# Altium footprint library PcbLib1.PcbLib: 35 footprints (part 1 of 3)
Each footprint in its own frame and in the unit in brackets; x right, y up, seen from the top. Pads: shape width x height; smd on the part's side, far side on the other; paste and mask are expansions set on the pad; w line width, h text height; cw(c..) or ccw(c..) is an arc to the next point about the centre after c.
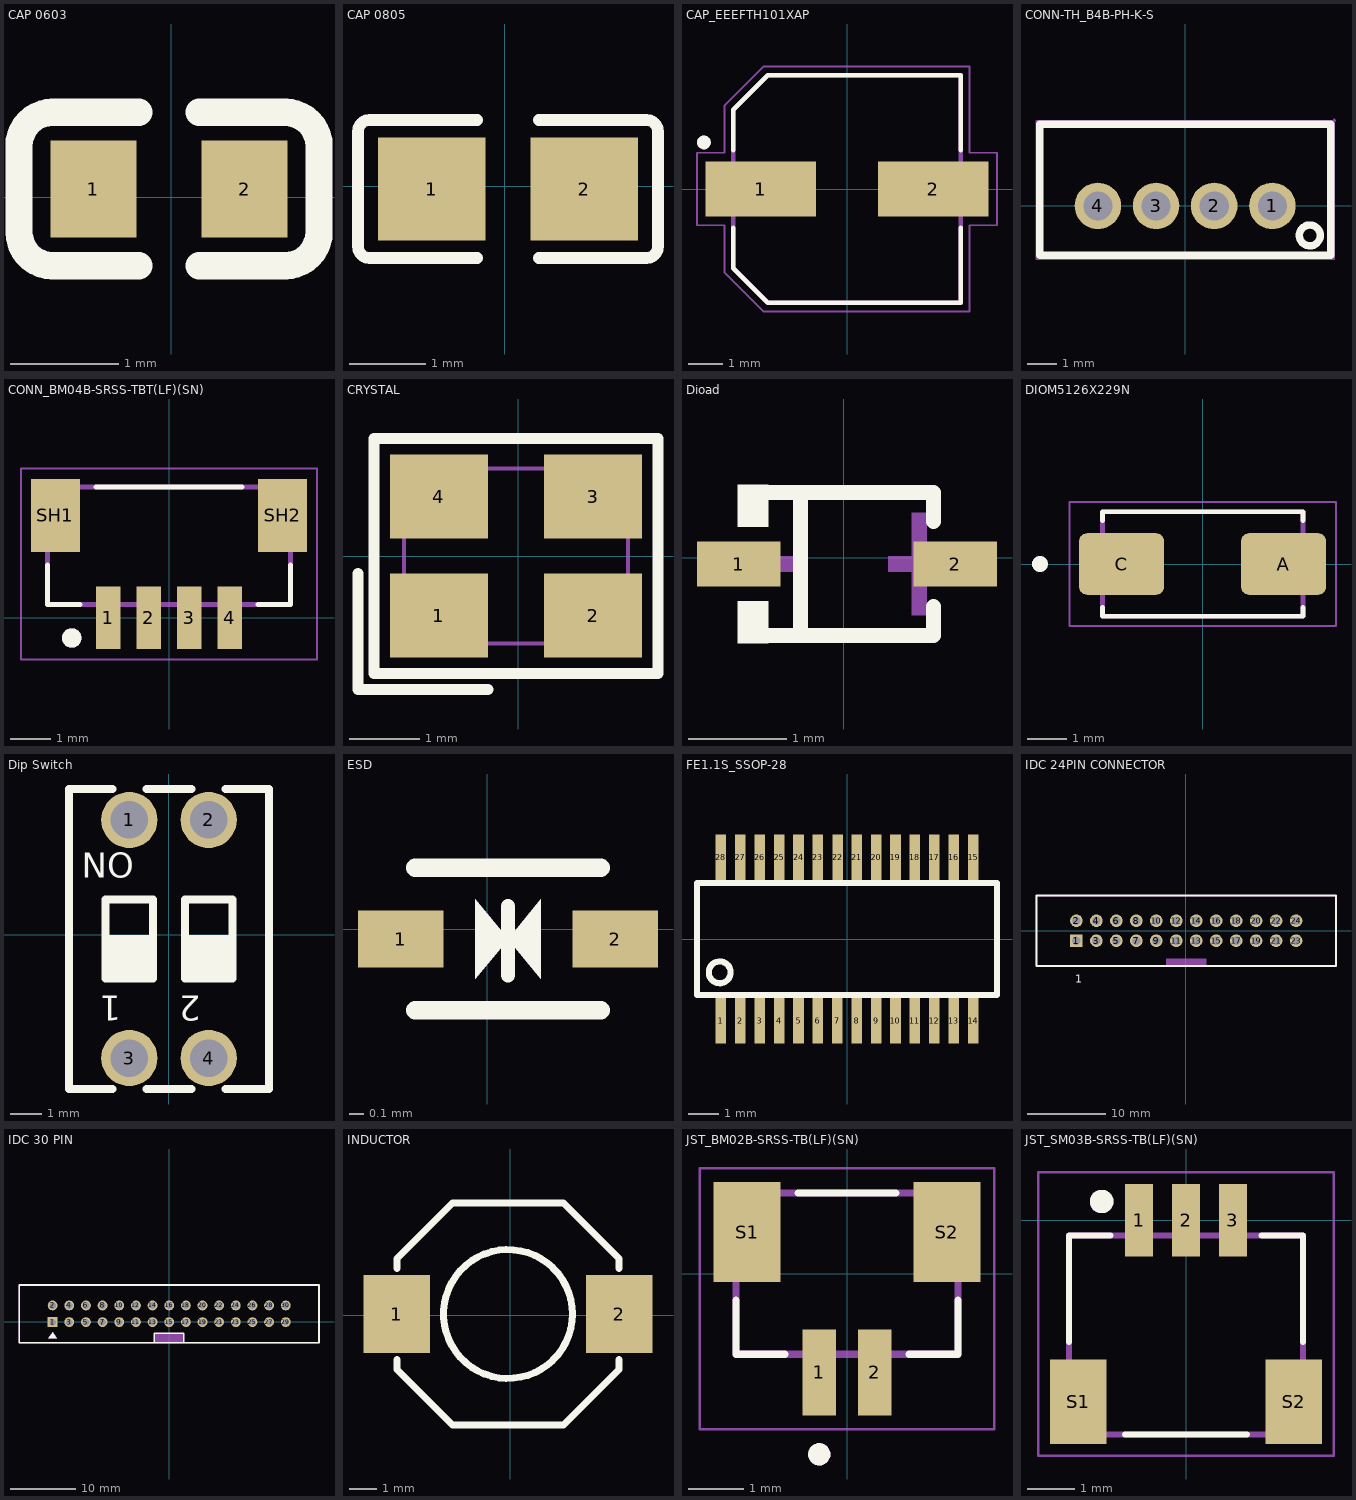
[diagram p0: the footprints below, top view; thin cyan lines are the x and y axes]

## CAP 0603 [mm]
pads (2):
  rect 0.8x0.9 smd paste+0 mask+0.051: 1(-0.722,0.075) 2(0.678,0.075)
Top Overlay:
  lines w0.254: -0.302,-0.635 -1.102,-0.635 cw(c-1.102,-0.325) -1.412,-0.325 -1.412,0.475 cw(c-1.102,0.475) -1.102,0.785 -0.302,0.785 ; 0.258,-0.635 1.058,-0.635 ccw(c1.058,-0.325) 1.368,-0.325 1.368,0.475 ccw(c1.058,0.475) 1.058,0.785 0.258,0.785
3D body "GCM188R71E472KA37D.STEP": height 0.78, standoff -0.02, extent -0.8,-0.319 0.8,0.481

## CAP 0805 [mm]
pads (2):
  rect 1.41x1.35 smd paste-100 mask+0.051: 1(-0.956,-0.036) 2(1.044,-0.036)
Top Overlay:
  lines w0.152: -0.358,-0.94 -1.768,-0.94 cw(c-1.768,-0.787) -1.92,-0.787 -1.92,0.715 cw(c-1.768,0.715) -1.768,0.867 -0.358,0.867 ; 0.445,-0.94 1.855,-0.94 ccw(c1.855,-0.787) 2.007,-0.787 2.007,0.715 ccw(c1.855,0.715) 1.855,0.867 0.445,0.867
Top Paste:
  region: -1.661,-0.676 -1.661,0.604 -1.611,0.654 -0.461,0.654 -0.411,0.604 -0.406,0.194 -0.856,0.194 -0.856,-0.256 -0.416,-0.256 -0.411,-0.676 -0.461,-0.726 -1.611,-0.726
  region: 1.749,0.604 1.749,-0.676 1.699,-0.726 0.549,-0.726 0.499,-0.676 0.494,-0.266 0.944,-0.266 0.944,0.184 0.504,0.184 0.499,0.604 0.549,0.654 1.699,0.654
3D body "GCM2165C2A151JA16D.STEP": height 1.26, standoff 0.01, extent -1,-0.763 1,0.687

## CAP_EEEFTH101XAP [mm]
height 7.7
pads (2):
  rect 3.2x1.6 smd: 1(-2.5,0) 2(2.5,0)
Top Overlay:
  circle w0.2: c-4.15,1.35 r0.1
  lines w0.127: -3.3,-1.12 -3.3,-2.3 -2.3,-3.3 3.3,-3.3 3.3,-1.12 ; -3.3,1.12 -3.3,2.3 -2.3,3.3 3.3,3.3 3.3,1.12
Mechanical 13:
  circle w0.2: c-4.15,1.35 r0.1
  lines w0.127: -3.3,-2.3 -2.3,-3.3 3.3,-3.3 3.3,3.3 -2.3,3.3 -3.3,2.3 -3.3,-2.3
Mechanical 15:
  lines w0.05: -4.35,-1.05 -4.35,1.05 -3.55,1.05 -3.55,2.425 -2.425,3.55 3.55,3.55 3.55,1.05 4.35,1.05 4.35,-1.05 3.55,-1.05 3.55,-3.55 -2.425,-3.55 -3.55,-2.425 -3.55,-1.05 -4.35,-1.05
3D body "step_temp.STEP": height 7.7, standoff 0, extent -3.65,-3.3 3.65,3.3

## CONN-TH_B4B-PH-K-S [mm]
pads (4):
  round 1.6 hole 1: 1(3,0) 2(1,0) 3(-1,0) 4(-3,0)
Top Overlay:
  circle w0.254: c4.286,-1.016 r0.359
  lines w0.254: -5,-1.7 5,-1.7 5,2.8 -5,2.8 -5,-1.7
Mechanical 15:
  region: 1.4,0 1.4,-0.08 1.339,-0.227 1.227,-0.339 1.08,-0.4 0.92,-0.4 0.773,-0.339 0.661,-0.227 0.6,-0.08 0.6,0 0.6,0.08 0.661,0.227 0.773,0.339 0.92,0.4 1.08,0.4 1.227,0.339 1.339,0.227 1.4,0.08 1.4,0
  region: 3.4,0 3.4,-0.08 3.339,-0.227 3.227,-0.339 3.08,-0.4 2.92,-0.4 2.773,-0.339 2.661,-0.227 2.6,-0.08 2.6,0 2.6,0.08 2.661,0.227 2.773,0.339 2.92,0.4 3.08,0.4 3.227,0.339 3.339,0.227 3.4,0.08 3.4,0
  region: -0.6,0 -0.6,-0.08 -0.661,-0.227 -0.773,-0.339 -0.92,-0.4 -1.08,-0.4 -1.227,-0.339 -1.339,-0.227 -1.4,-0.08 -1.4,0 -1.4,0.08 -1.339,0.227 -1.227,0.339 -1.08,0.4 -0.92,0.4 -0.773,0.339 -0.661,0.227 -0.6,0.08 -0.6,0
  region: -2.6,0 -2.6,-0.08 -2.661,-0.227 -2.773,-0.339 -2.92,-0.4 -3.08,-0.4 -3.227,-0.339 -3.339,-0.227 -3.4,-0.08 -3.4,0 -3.4,0.08 -3.339,0.227 -3.227,0.339 -3.08,0.4 -2.92,0.4 -2.773,0.339 -2.661,0.227 -2.6,0.08 -2.6,0
  region: 5.187,2.927 5.187,2.902 5.152,2.867 5.102,2.867 5.067,2.902 5.067,2.927 5.067,2.952 5.102,2.987 5.152,2.987 5.187,2.952 5.187,2.927
  lines w0.051: -5.127,-1.827 5.127,-1.827 5.127,2.927 -5.127,2.927 -5.127,-1.827
3D body "3D_PCB17_2026-05-06.SLDASM1.STEP": height 6.1, standoff -2.9, extent -4.904,-1.739 4.997,2.961

## CONN_BM04B-SRSS-TBT(LF)(SN) [mm]
pads (6):
  rect 0.6x1.55 smd: 1(-1.5,0) 2(-0.5,0) 3(0.5,0) 4(1.5,0)
  rect 1.2x1.8 smd: SH1(-2.8,2.525) SH2(2.8,2.525)
Top Overlay:
  circle w0.24: c-2.4,-0.5 r0.12
  lines w0.127: -3,1.3 -3,0.325 -2.2,0.325 ; -1.8,3.225 1.8,3.225 ; 2.2,0.325 3,0.325 3,1.3
Mechanical 13:
  circle w0.24: c-2.4,-0.5 r0.12
  lines w0.127: -3,0.325 3,0.325 3,3.225 -3,3.225 -3,0.325
Mechanical 15:
  lines w0.05: -3.65,-1.025 3.65,-1.025 3.65,3.675 -3.65,3.675 -3.65,-1.025
3D body "BM04B-SRSS-TBT(LF)(SN)--3DModel-STEP-56544 (1).STEP": height 4.35, standoff 0, extent -3,-0.552 3,3.048

## CRYSTAL [mm]
pads (4):
  rect 1.4x1.2 smd: 1(-1.129,-0.848) 2(1.071,-0.848) 3(1.071,0.852) 4(-1.129,0.852)
Top Overlay:
  lines w0.152: -2.286,-0.248 -2.286,-1.905 -0.429,-1.905 ; -2.057,-1.676 -2.057,1.681 2,1.681 2,-1.676 -2.057,-1.676
Mechanical 6:
  circle w0.254: c-1.299,-0.887 r0.127
Mechanical 15:
  region: -1.569,-1.248 -1.569,-1.273 -1.604,-1.308 -1.654,-1.308 -1.689,-1.273 -1.689,-1.248 -1.689,-1.223 -1.654,-1.188 -1.604,-1.188 -1.569,-1.223
  region: -1.529,1.152 -0.629,1.152 -0.629,0.352 -1.529,0.352
  region: 0.571,1.152 1.471,1.152 1.471,0.352 0.571,0.352
  region: 0.571,-0.348 1.471,-0.348 1.471,-1.148 0.571,-1.148
  region: -1.529,-0.348 -0.629,-0.348 -0.629,-1.148 -1.529,-1.148
  lines w0.051: -1.629,-1.248 -1.629,1.252 1.571,1.252 1.571,-1.248 -1.629,-1.248
3D body "3D_PCB2_2026-04-22.STEPN.STEP": height 0.73, standoff 0.03, extent -1.654,-1.274 1.546,1.226

## Dioad [mm]
pads (2):
  rect 0.845x0.455 smd paste+0 mask+0.051: 1(-1.066,-0.061) 2(1.129,-0.061)
Top Overlay:
  region: -0.768,-0.864 -0.768,-0.441 -1.073,-0.441 -1.073,-0.864
  region: -0.768,0.741 -0.768,0.319 -1.073,0.319 -1.073,0.741
  lines w0.152: -0.844,-0.787 0.908,-0.787 0.908,-0.492 ; -0.844,0.665 0.908,0.665 0.908,0.37 ; -0.44,-0.787 -0.44,0.665
Mechanical 15:
  region: 0.842,0.459 0.842,-0.581 0.686,-0.581 0.686,0.459
  region: 1.076,0.017 1.076,-0.139 0.452,-0.139 0.452,0.017
  region: -1.012,0.017 -1.012,-0.139 -0.388,-0.139 -0.388,0.017

## DIOM5126X229N [mm]
height 2.29
pads (2):
  rrect25% 2.17x1.57 smd: A(2.065,0) C(-2.065,0)
Top Overlay:
  circle w0.2: c-4.15,0 r0.1
  lines w0.127: -2.552,-1.105 -2.552,-1.332 2.552,-1.332 2.552,-1.105 ; -2.552,1.105 -2.552,1.332 2.552,1.332 2.552,1.105
Mechanical 13:
  circle w0.2: c-4.15,0 r0.1
  lines w0.127: -2.552,-1.332 -2.552,1.332 2.552,1.332 2.552,-1.332 -2.552,-1.332
Mechanical 15:
  lines w0.05: -3.4,-1.582 3.4,-1.582 3.4,1.582 -3.4,1.582 -3.4,-1.582
3D body "step_temp.STEP": height 2.29, standoff 0, extent -2.553,-1.333 2.553,1.333

## Dip Switch [mm]
pads (4):
  round 1.8 hole 1.2 paste-2539.97 mask+0.051: 1(-1.26,3.68) 2(1.28,3.68) 3(-1.26,-3.94) 4(1.28,-3.94)
Top Overlay:
  lines w0.254: -2.022,-1.146 -0.498,-1.146 ; -2.022,-0.892 -0.498,-0.892 ; -2.022,-0.638 -0.498,-0.638 ; -2.022,-0.384 -0.498,-0.384 ; -2.022,-0.13 -0.498,-0.13 ; -1.804,-4.93 -3.19,-4.93 -3.19,4.67 -1.804,4.67 ; -0.716,-4.93 0.736,-4.93 ; -0.716,4.67 0.736,4.67 ; 0.518,-1.146 2.042,-1.146 ; 0.518,-0.892 2.042,-0.892 ; 0.518,-0.638 2.042,-0.638 ; 0.518,-0.384 2.042,-0.384 ; 0.518,-0.13 2.042,-0.13 ; 1.824,-4.93 3.21,-4.93 3.21,4.67 1.824,4.67 ; -2.022,-1.4 -2.022,1.14 -0.498,1.14 -0.498,-1.4 -2.022,-1.4 ; 0.518,-1.4 0.518,1.14 2.042,1.14 2.042,-1.4 0.518,-1.4
  text "2" at 1.026,-1.945 h0.8
  text "1" at -1.514,-1.945 h0.8
  text "NO" at -2.784,1.827 h0.8
3D body "3D_PCB6_2026-04-28.STEPN.STEP": height 6.7, standoff -3.1, extent -3.288,-5.102 3.353,4.798

## ESD [mm]
pads (2):
  rect 0.6x0.4 smd paste+0 mask+0.051: 1(-0.604,-0.07) 2(0.896,-0.07)
Top Overlay:
  region: 0.146,-0.07 -0.083,-0.349 -0.083,0.209
  region: 0.146,-0.07 0.375,0.209 0.375,-0.349
  lines w0.1: 0.146,-0.324 0.146,0.159
  lines w0.13: -0.504,-0.57 0.796,-0.57 ; -0.504,0.43 0.796,0.43
Mechanical 15:
  region: 0.375,0.209 0.375,-0.349 0.146,-0.07
  region: -0.083,0.209 -0.083,-0.349 0.146,-0.07

## FE1.1S_SSOP-28 [mm]
pads (28):
  rect 0.35x1.5 smd: 1(-4.16,-2.7) 2(-3.52,-2.7) 3(-2.88,-2.7) 4(-2.24,-2.7) 5(-1.6,-2.7) 6(-0.96,-2.7) 7(-0.32,-2.7) 8(0.32,-2.7) 9(0.96,-2.7) 10(1.6,-2.7) 11(2.24,-2.7) 12(2.88,-2.7) 13(3.52,-2.7) 14(4.16,-2.7) 15(4.16,2.7) 16(3.52,2.7) 17(2.88,2.7) 18(2.24,2.7) 19(1.6,2.7) 20(0.96,2.7) 21(0.32,2.7) 22(-0.3,2.7) 23(-0.96,2.7) 24(-1.6,2.7) 25(-2.24,2.7) 26(-2.88,2.7) 27(-3.52,2.7) 28(-4.16,2.7)
Top Overlay:
  circle w0.203: c-4.2,-1.1 r0.361
  lines w0.203: -4.95,1.85 -4.95,-1.85 4.95,-1.85 4.95,1.85 -4.93,1.85
3D body "step_temp.STEP": height 1.73, standoff 0, extent -4.953,-2.997 4.953,2.997

## IDC 24PIN CONNECTOR [mm]
pads (24):
  rect 1.6x1.6 hole 1.05: 1(-13.895,-1.295)
  round 1.6 hole 1.05: 2(-13.895,1.245) 3(-11.355,-1.295) 4(-11.355,1.245) 5(-8.815,-1.295) 6(-8.815,1.245) 7(-6.275,-1.295) 8(-6.275,1.245) 9(-3.735,-1.295) 10(-3.735,1.245) 11(-1.195,-1.295) 12(-1.195,1.245) 13(1.345,-1.295) 14(1.345,1.245) 15(3.885,-1.295) 16(3.885,1.245) 17(6.425,-1.295) 18(6.425,1.245) 19(8.965,-1.295) 20(8.965,1.245) 21(11.505,-1.295) 22(11.505,1.245) 23(14.045,-1.295) 24(14.045,1.245)
Top Overlay:
  lines w0.254: -18.965,-4.526 19.115,-4.526 19.115,4.474 -18.965,4.474 -18.965,-4.526
  text "1" at -14.022,-6.629 h1
Mechanical 6:
  region: -2.465,-4.47 -2.465,-3.581 2.615,-3.581 2.615,-4.47
Mechanical 15:
  region: -18.905,-4.475 -18.905,-4.5 -18.94,-4.535 -18.989,-4.535 -19.025,-4.5 -19.025,-4.475 -19.025,-4.451 -18.989,-4.416 -18.94,-4.416 -18.905,-4.451
  region: -14.215,-0.975 -13.575,-0.975 -13.575,-1.615 -14.215,-1.615
  region: -14.215,1.565 -13.575,1.565 -13.575,0.925 -14.215,0.925
  region: -11.675,-0.975 -11.035,-0.975 -11.035,-1.615 -11.675,-1.615
  region: -11.675,1.565 -11.035,1.565 -11.035,0.925 -11.675,0.925
  region: -9.135,-0.975 -8.495,-0.975 -8.495,-1.615 -9.135,-1.615
  region: -9.135,1.565 -8.495,1.565 -8.495,0.925 -9.135,0.925
  region: -6.595,-0.975 -5.955,-0.975 -5.955,-1.615 -6.595,-1.615
  region: -6.595,1.565 -5.955,1.565 -5.955,0.925 -6.595,0.925
  region: -4.055,-0.975 -3.415,-0.975 -3.415,-1.615 -4.055,-1.615
  region: -4.055,1.565 -3.415,1.565 -3.415,0.925 -4.055,0.925
  region: -1.515,-0.975 -0.875,-0.975 -0.875,-1.615 -1.515,-1.615
  region: -1.515,1.565 -0.875,1.565 -0.875,0.925 -1.515,0.925
  region: 1.025,-0.975 1.665,-0.975 1.665,-1.615 1.025,-1.615
  region: 1.025,1.565 1.665,1.565 1.665,0.925 1.025,0.925
  region: 3.565,-0.975 4.205,-0.975 4.205,-1.615 3.565,-1.615
  region: 3.565,1.565 4.205,1.565 4.205,0.925 3.565,0.925
  region: 6.105,-0.975 6.745,-0.975 6.745,-1.615 6.105,-1.615
  region: 6.105,1.565 6.745,1.565 6.745,0.925 6.105,0.925
  region: 8.645,-0.975 9.285,-0.975 9.285,-1.615 8.645,-1.615
  region: 8.645,1.565 9.285,1.565 9.285,0.925 8.645,0.925
  region: 11.185,-0.975 11.825,-0.975 11.825,-1.615 11.185,-1.615
  region: 11.185,1.565 11.825,1.565 11.825,0.925 11.185,0.925
  region: 13.725,-0.975 14.365,-0.975 14.365,-1.615 13.725,-1.615
  region: 13.725,1.565 14.365,1.565 14.365,0.925 13.725,0.925
  lines w0.051: -18.965,-4.475 -18.965,4.425 19.115,4.425 19.115,-4.475 -18.965,-4.475
3D body "3D_PCB3_2026-04-22.step IDC.SLDASM1.STEP": height 8.7, standoff -3.6, extent -19.076,-4.456 19.004,4.554

## IDC 30 PIN [mm]
pads (30):
  rect 1.5x1.5 hole 1.02 paste-2539.97 mask+0.05: 1(-17.781,-0.037)
  round 1.5 hole 1.02 paste-2539.97 mask+0.05: 2(-17.781,2.503) 3(-15.241,-0.037) 4(-15.241,2.503) 5(-12.701,-0.037) 6(-12.701,2.503) 7(-10.161,-0.037) 8(-10.161,2.503) 9(-7.621,-0.037) 10(-7.621,2.503) 11(-5.081,-0.037) 12(-5.081,2.503) 13(-2.541,-0.037) 14(-2.541,2.503) 15(-0.001,-0.037) 16(-0.001,2.503) 17(2.539,-0.037) 18(2.539,2.503) 19(5.079,-0.037) 20(5.079,2.503) 21(7.619,-0.037) 22(7.619,2.503) 23(10.159,-0.037) 24(10.159,2.503) 25(12.699,-0.037) 26(12.699,2.503) 27(15.239,-0.037) 28(15.239,2.503) 29(17.779,-0.037) 30(17.779,2.503)
Top Overlay:
  region: -17.781,-1.561 -17.131,-2.487 -18.431,-2.487
  lines w0.254: -2.287,-3.085 -2.287,-1.733 2.238,-1.733 2.238,-3.167 ; -22.851,-3.167 22.849,-3.167 22.849,5.633 -22.851,5.633 -22.851,-3.167
Mechanical 6:
  region: -17.781,-1.561 -17.131,-2.487 -18.431,-2.487
  region: -2.301,-3.167 -2.301,-1.717 2.249,-1.717 2.249,-3.167
Mechanical 15:
  drawing of 35 lines, arcs and shapes, not listed
3D body "3D_PCB9_2026-04-30.SLDASM1.STEP": height 9.6, standoff -2.6, extent -22.885,-3.391 22.815,5.519

## INDUCTOR [mm]
pads (2):
  rect 2.4x2.8 smd paste+0 mask+0.051: 1(-4.073,0.038) 2(3.927,0.038)
Top Overlay:
  circle w0.254: c-0.073,0.038 r2.32
  lines w0.254: -4.073,-1.594 -4.073,-1.962 -2.073,-3.962 1.927,-3.962 3.927,-1.962 3.927,-1.594 ; -4.073,1.669 -4.073,2.038 -2.073,4.038 1.927,4.038 3.927,2.038 3.927,1.669
3D body "3D_PCB7_2026-04-28.step2.STEPN1.STEP": height 3.1, standoff 0.1, extent -4.032,-4.222 4.068,3.788

## JST_BM02B-SRSS-TB(LF)(SN) [mm]
height 6.3
pads (4):
  rect 0.6x1.55 smd: 1(-0.5,-1.775) 2(0.5,-1.775)
  rect 1.2x1.8 smd: S1(-1.8,0.75) S2(1.8,0.75)
Top Overlay:
  circle w0.2: c-0.5,-3.25 r0.1
  lines w0.127: -2,-0.47 -2,-1.45 -1.12,-1.45 ; -0.88,1.45 0.88,1.45 ; 1.12,-1.45 2,-1.45 2,-0.47
Mechanical 13:
  circle w0.2: c-0.5,-3.25 r0.1
  lines w0.127: -2,-1.45 -2,1.45 2,1.45 2,-1.45 -2,-1.45
Mechanical 15:
  lines w0.05: -2.65,-2.8 2.65,-2.8 2.65,1.9 -2.65,1.9 -2.65,-2.8
3D body "step_temp.STEP": height 4.25, standoff 0, extent -2,-2.1 2,1.5

## JST_SM03B-SRSS-TB(LF)(SN) [mm]
pads (5):
  rect 0.6x1.55 smd paste+0 mask+0.102: 1(-1,0) 2(0,0) 3(1,0)
  rect 1.2x1.8 smd paste+0 mask+0.102: S1(-2.3,-3.875) S2(2.3,-3.875)
Top Overlay:
  circle w0.3: c-1.8,0.4 r0.1
  lines w0.127: -2.5,-2.6 -2.5,-0.325 -1.615,-0.325 ; -1.3,-4.575 1.3,-4.575 ; 1.615,-0.325 2.5,-0.325 2.5,-2.6
Mechanical 13:
  circle w0.3: c-1.8,0.4 r0.1
  lines w0.127: -2.5,-4.575 -2.5,-0.325 2.5,-0.325 2.5,-4.575 -2.5,-4.575
Mechanical 15:
  lines w0.05: -3.15,-5.025 -3.15,1.025 3.15,1.025 3.15,-5.025 -3.15,-5.025
3D body "step_temp.STEP": height 2.92, standoff -0.04, extent -2.5,-4.276 2.5,0.673